# EAGLE library part 74AHC14 (library packages(ti))
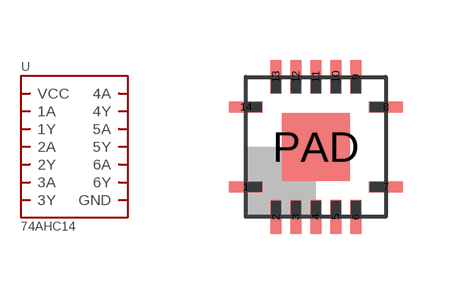
[diagram p7: symbol with the pads of RGY.14; footprint RGY.14]

Designator prefix U

## 74AHC14  [RGY.14]
1  1A
2  1Y
3  2A
4  2Y
5  3A
6  3Y
7  GND
8  4Y
9  4A
10  5Y
11  5A
12  6Y
13  6A
14  VCC
PAD  GND

## Footprint RGY.14 (pad centres in mm)
smd 0.85 x 0.28: 1 -1.755,-1; 7 1.755,-1; 8 1.755,1; 14 -1.755,1
smd 0.28 x 0.85: 2 -1,-1.755; 3 -0.5,-1.755; 4 0,-1.755; 5 0.5,-1.755; 6 1,-1.755; 9 1,1.755; 10 0.5,1.755; 11 0,1.755; 12 -0.5,1.755; 13 -1,1.755
smd 1.7 x 1.7: PAD 0,0